# Altium footprint library SOT95P255X125-3N.PcbLib: 1 footprints
Each footprint in its own frame and in the unit in brackets; x right, y up, seen from the top. Pads: shape width x height; smd on the part's side, far side on the other; paste and mask are expansions set on the pad; w line width, h text height; cw(c..) or ccw(c..) is an arc to the next point about the centre after c.
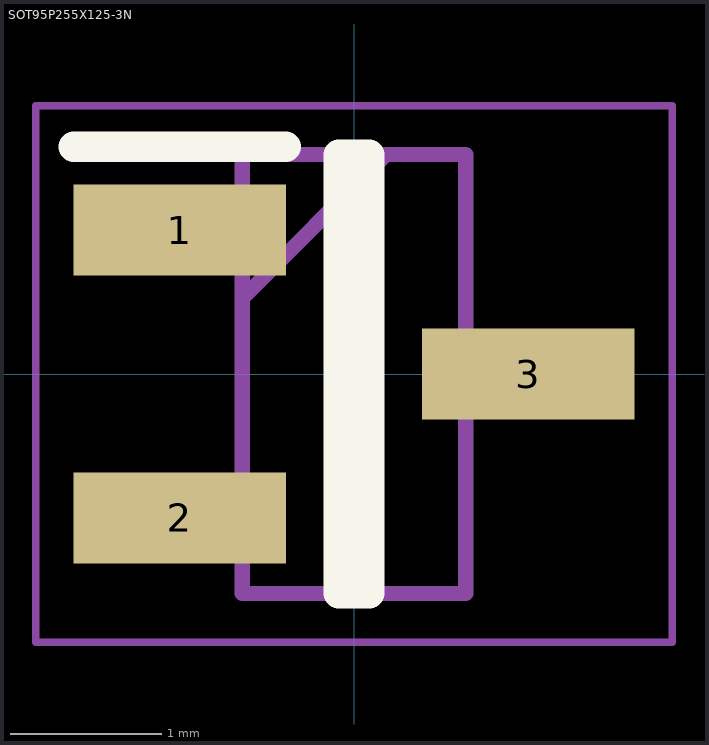
[diagram p0: the footprint, top view; thin cyan lines are the x and y axes]

## SOT95P255X125-3N [mm]
pads (3):
  rect 1.4x0.6 smd: 1(-1.15,0.95) 2(-1.15,-0.95) 3(1.15,0)
Top Overlay:
  lines w0.2: -1.85,1.5 -0.45,1.5 ; -0.1,-1.448 0.1,-1.448 0.1,1.448 -0.1,1.448 -0.1,-1.448
Mechanical 15:
  lines w0.1: -0.738,0.498 0.212,1.448 ; -0.738,-1.448 0.738,-1.448 0.738,1.448 -0.738,1.448 -0.738,-1.448
Mechanical 20:
  lines w0.05: -2.1,-1.77 2.1,-1.77 2.1,1.77 -2.1,1.77 -2.1,-1.77